# EAGLE library part I__74HC*73 (library ..SMD)
Dual J-K FLIP FLOP, clear
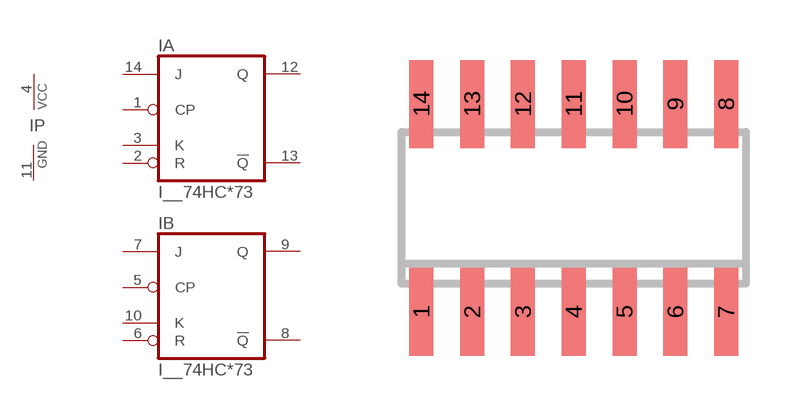
[diagram p337: symbol with the pads of SO14; footprint SO14]

Designator prefix I; gates A=74HC73 B=74HC73 P=PWRN-2

## I__74HC73D, I__74HCT73D  [SO14]
1  A:CP  in
2  A:R  in
3  A:K  in
4  P:VCC  pwr
5  B:CP  in
6  B:R  in
7  B:J  in
8  B:!Q  out
9  B:Q  out
10  B:K  in
11  P:GND  pwr
12  A:Q  out
13  A:!Q  out
14  A:J  in

## Footprint SO14 (pad centres in mm)
Small Outline Package 14
smd 0.6 x 2.2: 1 -3.81,-2.6; 2 -2.54,-2.6; 3 -1.27,-2.6; 4 0,-2.6; 5 1.27,-2.6; 6 2.54,-2.6; 7 3.81,-2.6; 8 3.81,2.6; 9 2.54,2.6; 10 1.27,2.6; 11 0,2.6; 12 -1.27,2.6; 13 -2.54,2.6; 14 -3.81,2.6